# Altium footprint library parts.PCBLIB: 93 footprints (part 6 of 6)
Each footprint in its own frame and in the unit in brackets; x right, y up, seen from the top. Pads: shape width x height; smd on the part's side, far side on the other; paste and mask are expansions set on the pad; w line width, h text height; cw(c..) or ccw(c..) is an arc to the next point about the centre after c.
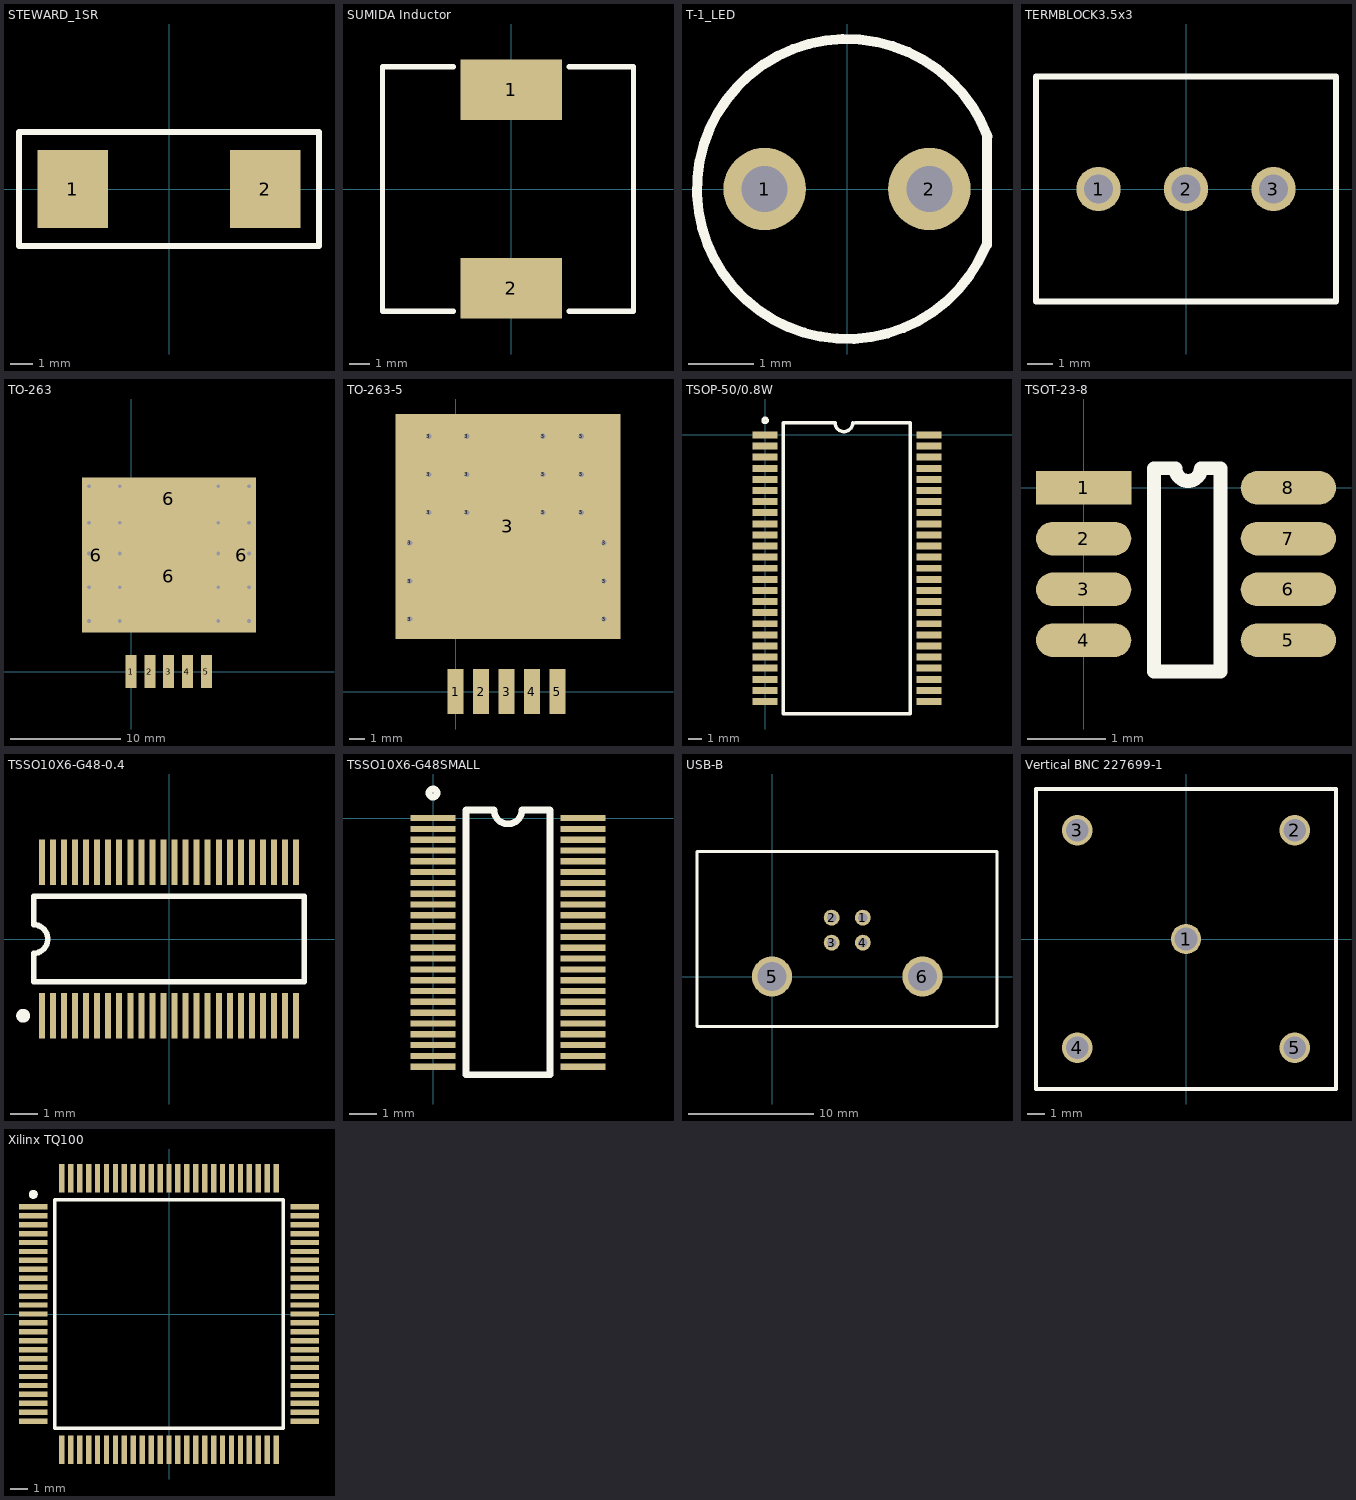
[diagram p5: the footprints below, top view; thin cyan lines are the x and y axes]

## STEWARD_1SR [mil]
pads (2):
  rect 124x136 smd: 1(-169,0) 2(169,0)
TopOverlay:
  lines w10: -263,-100 -263,0 -263,100 263,100 263,-100 -263,-100

## SUMIDA Inductor [mm] "Sumida inductor format"
pads (2):
  rect 5x3 smd: 1(0,4.9) 2(0,-4.9)
TopOverlay:
  lines w0.254: -2.857,-6.032 -6.35,-6.032 -6.35,6.032 -2.857,6.032 ; 2.857,-6.032 6.032,-6.032 6.032,6.032 2.857,6.032

## T-1_LED [mil]
pads (2):
  round 50 hole 28: 1(-50,0) 2(50,0)
TopOverlay:
  lines w6: 83.98,-35.07 cw(c0,0) 85.21,31.95 ; 85,-34 85,32.05

## TERMBLOCK3.5x3 [mil]
pads (3):
  round 70 hole 46: 1(-137.79,0) 2(0,0) 3(137.79,0)
TopOverlay:
  lines w10: -236.22,-177.16 -236.22,177.16 236.22,177.16 236.22,0 236.22,-177.16 -236.22,-177.16

## TO-263 [mil]
pads (29):
  rect 39.37x118.11 smd: 1(0,0) 2(66.93,0) 3(133.86,0) 4(200.79,0) 5(267.72,0)
  round 20 hole 13.5 paste-400 mask-400: 6(-150,180) 6(-150,300) 6(-150,420) 6(-150,530) 6(-150,660) 6(-40,180) 6(-40,300) 6(-40,420) 6(-40,530) 6(-40,660) 6(310,180) 6(310,300) 6(310,420) 6(310,530) 6(310,660) 6(420,180) 6(420,300) 6(420,420) 6(420,530) 6(420,660)
  rect 100x550 smd paste-400 mask-400: 6(-123.86,415) 6(393.86,415)
  rect 420x400 smd: 6(133.86,340)
  rect 420x150 smd paste-400 mask-400: 6(133.86,615)

## TO-263-5 [mil] "TO263-5 National Semi Pkg TS5B"
pads (24):
  rect 42x118.11 smd: 1(0,0) 2(66.93,0) 3(133.86,0) 4(200.79,0) 5(267.72,0)
  round 20 hole 13.5: 3(-120,190) 3(-120,290) 3(-120,390) 3(-70,470) 3(-70,570) 3(-70,670) 3(30,470) 3(30,570) 3(30,670) 3(230,470) 3(230,570) 3(230,670) 3(330,470) 3(330,570) 3(330,670) 3(390,190) 3(390,290) 3(390,390)
  rect 590.55x590.55 smd: 3(137.79,433.07)

## TSOP-50/0.8W [mm]
pads (50):
  rect 1.8x0.5 smd: 1(0,0) 2(0,-0.8) 3(0,-1.6) 4(0,-2.4) 5(0,-3.2) 6(0,-4) 7(0,-4.8) 8(0,-5.6) 9(0,-6.4) 10(0,-7.2) 11(0,-8) 12(0,-8.8) 13(0,-9.6) 14(0,-10.4) 15(0,-11.2) 16(0,-12) 17(0,-12.8) 18(0,-13.6) 19(0,-14.4) 20(0,-15.2) 21(0,-16) 22(0,-16.8) 23(0,-17.6) 24(0,-18.4) 25(0,-19.2) 26(11.8,-19.2) 27(11.8,-18.4) 28(11.8,-17.6) 29(11.8,-16.8) 30(11.8,-16) 31(11.8,-15.2) 32(11.8,-14.4) 33(11.8,-13.6) 34(11.8,-12.8) 35(11.8,-12) 36(11.8,-11.2) 37(11.8,-10.4) 38(11.8,-9.6) 39(11.8,-8.8) 40(11.8,-8) 41(11.8,-7.2) 42(11.8,-6.4) 43(11.8,-5.6) 44(11.8,-4.8) 45(11.8,-4) 46(11.8,-3.2) 47(11.8,-2.4) 48(11.8,-1.6) 49(11.8,-0.8) 50(11.8,0)
TopOverlay:
  circle w0.25: c0,1.05 r0.15
  lines w0.25: 6.31,0.875 cw(c5.675,0.875) 5.04,0.875 1.3,0.875 1.3,-20.075 10.45,-20.075 10.45,0.875 6.51,0.875

## TSOT-23-8 [mm]
pads (8):
  rect 1.22x0.43 smd: 1(0,0)
  oval 1.22x0.43 smd: 2(0,-0.65) 3(0,-1.3) 4(0,-1.95) 5(2.62,-1.95) 6(2.62,-1.3) 7(2.62,-0.65) 8(2.62,0)
TopOverlay:
  lines w0.178: 1.15,0.25 0.9,0.25 0.9,-2.35 1.75,-2.35 1.75,0.25 1.525,0.25 ; 1.175,0.25 ccw(c1.337,0.25) 1.5,0.25

## TSSO10X6-G48-0.4 [mm]
pads (48):
  rect 0.216x1.65 smd: 1(-4.6,-2.775) 2(-4.2,-2.775) 3(-3.8,-2.775) 4(-3.4,-2.775) 5(-3,-2.775) 6(-2.6,-2.775) 7(-2.2,-2.775) 8(-1.8,-2.775) 9(-1.4,-2.775) 10(-1,-2.775) 11(-0.6,-2.775) 12(-0.2,-2.775) 13(0.2,-2.775) 14(0.6,-2.775) 15(1,-2.775) 16(1.4,-2.775) 17(1.8,-2.775) 18(2.2,-2.775) 19(2.6,-2.775) 20(3,-2.775) 21(3.4,-2.775) 22(3.8,-2.775) 23(4.2,-2.775) 24(4.6,-2.775) 25(4.6,2.775) 26(4.2,2.775) 27(3.8,2.775) 28(3.4,2.775) 29(3,2.775) 30(2.6,2.775) 31(2.2,2.775) 32(1.8,2.775) 33(1.4,2.775) 34(1,2.775) 35(0.6,2.775) 36(0.2,2.775) 37(-0.2,2.775) 38(-0.6,2.775) 39(-1,2.775) 40(-1.4,2.775) 41(-1.8,2.775) 42(-2.2,2.775) 43(-2.6,2.775) 44(-3,2.775) 45(-3.4,2.775) 46(-3.8,2.775) 47(-4.2,2.775) 48(-4.6,2.775)
TopOverlay:
  circle w0.25: c-5.275,-2.775 r0.125
  lines w0.2: -4.9,-1.55 -4.9,-0.517 ccw(c-4.9,0) -4.9,0.517 -4.9,1.55 4.9,1.55 4.9,-1.55 -4.9,-1.55

## TSSO10X6-G48SMALL [mm]
pads (48):
  rect 1.65x0.23 smd: 1(0,0) 2(0,-0.4) 3(0,-0.8) 4(0,-1.2) 5(0,-1.6) 6(0,-2) 7(0,-2.4) 8(0,-2.8) 9(0,-3.2) 10(0,-3.6) 11(0,-4) 12(0,-4.4) 13(0,-4.8) 14(0,-5.2) 15(0,-5.6) 16(0,-6) 17(0,-6.4) 18(0,-6.8) 19(0,-7.2) 20(0,-7.6) 21(0,-8) 22(0,-8.4) 23(0,-8.8) 24(0,-9.2) 25(5.55,-9.2) 26(5.55,-8.8) 27(5.55,-8.4) 28(5.55,-8) 29(5.55,-7.6) 30(5.55,-7.2) 31(5.55,-6.8) 32(5.55,-6.4) 33(5.55,-6) 34(5.55,-5.6) 35(5.55,-5.2) 36(5.55,-4.8) 37(5.55,-4.4) 38(5.55,-4) 39(5.55,-3.6) 40(5.55,-3.2) 41(5.55,-2.8) 42(5.55,-2.4) 43(5.55,-2) 44(5.55,-1.6) 45(5.55,-1.2) 46(5.55,-0.8) 47(5.55,-0.4) 48(5.55,0)
TopOverlay:
  circle w0.25: c0,0.925 r0.15
  lines w0.25: 1.225,-9.5 4.325,-9.5 4.325,0.3 3.292,0.3 cw(c2.775,0.3) 2.258,0.3 1.225,0.3 1.225,-9.5

## USB-B [mm]
pads (6):
  round 1.27 hole 0.762: 1(7.27,4.71) 2(4.77,4.71) 3(4.77,2.71) 4(7.27,2.71)
  round 3.2 hole 2.3: 5(0,0) 6(12.04,0)
TopOverlay:
  lines w0.254: -6,-4 6,-4 18,-4 18,10 16,10 -6,10 -6,0 -6,-4

## Vertical BNC 227699-1 [mil] "AMP vertical BNC 227699-1"
pads (5):
  round 70 hole 52: 1(0,0) 2(250,250) 3(-250,250) 4(-250,-250) 5(250,-250)
TopOverlay:
  lines w10: -345,-345 -345,345 345,345 345,-345 -345,-345

## Xilinx TQ100 [mm] "QFP; 100 Leads; Body 14 x 14 mm; Pitch 0.5 mm"
height 2.2
pads (100):
  rect 1.6x0.3 smd: 1(-7.6,6) 2(-7.6,5.5) 3(-7.6,5) 4(-7.6,4.5) 5(-7.6,4) 6(-7.6,3.5) 7(-7.6,3) 8(-7.6,2.5) 9(-7.6,2) 10(-7.6,1.5) 11(-7.6,1) 12(-7.6,0.5) 13(-7.6,0) 14(-7.6,-0.5) 15(-7.6,-1) 16(-7.6,-1.5) 17(-7.6,-2) 18(-7.6,-2.5) 19(-7.6,-3) 20(-7.6,-3.5) 21(-7.6,-4) 22(-7.6,-4.5) 23(-7.6,-5) 24(-7.6,-5.5) 25(-7.6,-6) 51(7.6,-6) 52(7.6,-5.5) 53(7.6,-5) 54(7.6,-4.5) 55(7.6,-4) 56(7.6,-3.5) 57(7.6,-3) 58(7.6,-2.5) 59(7.6,-2) 60(7.6,-1.5) 61(7.6,-1) 62(7.6,-0.5) 63(7.6,0) 64(7.6,0.5) 65(7.6,1) 66(7.6,1.5) 67(7.6,2) 68(7.6,2.5) 69(7.6,3) 70(7.6,3.5) 71(7.6,4) 72(7.6,4.5) 73(7.6,5) 74(7.6,5.5) 75(7.6,6)
  rect 0.3x1.6 smd: 26(-6,-7.6) 27(-5.5,-7.6) 28(-5,-7.6) 29(-4.5,-7.6) 30(-4,-7.6) 31(-3.5,-7.6) 32(-3,-7.6) 33(-2.5,-7.6) 34(-2,-7.6) 35(-1.5,-7.6) 36(-1,-7.6) 37(-0.5,-7.6) 38(0,-7.6) 39(0.5,-7.6) 40(1,-7.6) 41(1.5,-7.6) 42(2,-7.6) 43(2.5,-7.6) 44(3,-7.6) 45(3.5,-7.6) 46(4,-7.6) 47(4.5,-7.6) 48(5,-7.6) 49(5.5,-7.6) 50(6,-7.6) 76(6,7.6) 77(5.5,7.6) 78(5,7.6) 79(4.5,7.6) 80(4,7.6) 81(3.5,7.6) 82(3,7.6) 83(2.5,7.6) 84(2,7.6) 85(1.5,7.6) 86(1,7.6) 87(0.5,7.6) 88(0,7.6) 89(-0.5,7.6) 90(-1,7.6) 91(-1.5,7.6) 92(-2,7.6) 93(-2.5,7.6) 94(-3,7.6) 95(-3.5,7.6) 96(-4,7.6) 97(-4.5,7.6) 98(-5,7.6) 99(-5.5,7.6) 100(-6,7.6)
TopOverlay:
  circle w0.25: c-7.6,6.7 r0.125
  lines w0.2: -6.4,-6.4 -6.4,6.4 6.4,6.4 6.4,-6.4 -6.4,-6.4